# Altium footprint library PcbLib1.PcbLib: 3 footprints
Each footprint in its own frame and in the unit in brackets; x right, y up, seen from the top. Pads: shape width x height; smd on the part's side, far side on the other; paste and mask are expansions set on the pad; w line width, h text height; cw(c..) or ccw(c..) is an arc to the next point about the centre after c.
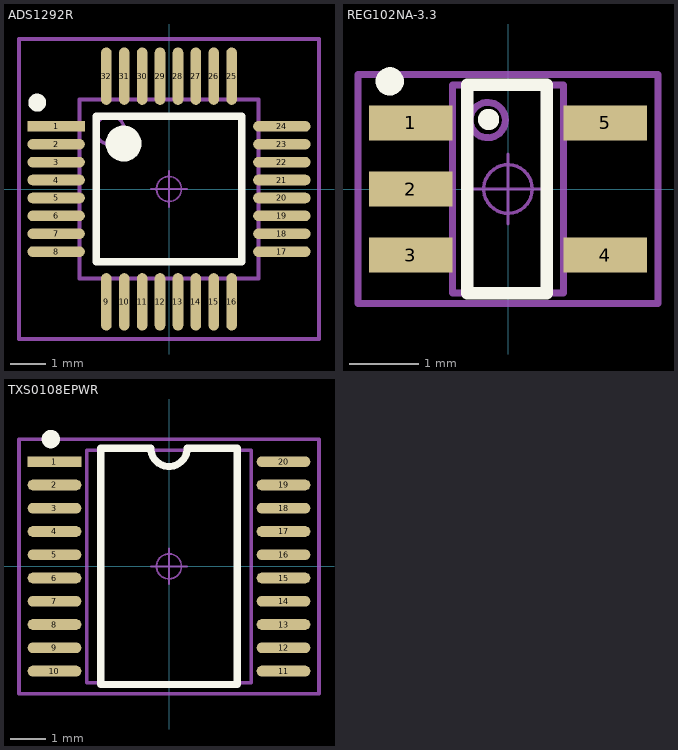
[diagram p0: the footprints below, top view; thin cyan lines are the x and y axes]

## ADS1292R [mm]
pads (32):
  rect 1.6x0.3 smd: 1(-3.152,1.75)
  oval 1.6x0.3 smd: 2(-3.152,1.25) 3(-3.152,0.75) 4(-3.152,0.25) 5(-3.152,-0.25) 6(-3.152,-0.75) 7(-3.152,-1.25) 8(-3.152,-1.75) 17(3.152,-1.75) 18(3.152,-1.25) 19(3.152,-0.75) 20(3.152,-0.25) 21(3.152,0.25) 22(3.152,0.75) 23(3.152,1.25) 24(3.152,1.75)
  oval 0.3x1.6 smd: 9(-1.75,-3.152) 10(-1.25,-3.152) 11(-0.75,-3.152) 12(-0.25,-3.152) 13(0.25,-3.152) 14(0.75,-3.152) 15(1.25,-3.152) 16(1.75,-3.152) 25(1.75,3.152) 26(1.25,3.152) 27(0.75,3.152) 28(0.25,3.152) 29(-0.25,3.152) 30(-0.75,3.152) 31(-1.25,3.152) 32(-1.75,3.152)
Top Overlay:
  circle w0.25: c-3.683,2.413 r0.125
  circle w0.6: c-1.27,1.27 r0.2
  lines w0.2: -2.032,-2.032 -2.032,2.032 2.032,2.032 2.032,-2.032 -2.032,-2.032
Mechanical 13:
  circle w0.1: c-1.651,1.651 r0.4
  lines w0.1: -2.5,-2.5 -2.5,2.5 2.5,2.5 2.5,-2.5 -2.5,-2.5
Mechanical 15:
  circle w0.05: c0,0 r0.35
  lines w0.05: -0.5,0 0.5,0 ; 0,-0.5 0,0.5
  lines w0.1: -4.191,-4.191 -4.191,4.191 4.191,4.191 4.191,-4.191 -4.191,-4.191
3D body "TQFP32 5x5.STEP": height 1.05, standoff 0, extent -3.502,-3.505 3.502,3.499

## REG102NA-3.3 [mm]
pads (5):
  rect 1.2x0.5 smd: 1(-1.4,0.95) 2(-1.4,0) 3(-1.4,-0.95) 4(1.4,-0.95) 5(1.4,0.95)
Top Overlay:
  circle w0.254: c-0.279,1.001 r0.025
  circle w0.254: c-1.702,1.549 r0.076
  lines w0.178: -0.584,-1.5 -0.584,1.5 0.559,1.5 0.559,-1.5 -0.584,-1.5
Mechanical 13:
  circle w0.1: c-0.292,0.992 r0.254
  lines w0.1: -0.8,-1.5 0.8,-1.5 0.8,1.5 -0.8,1.5 -0.8,-1.5
Mechanical 15:
  circle w0.05: c0,0 r0.35
  lines w0.05: -0.5,0 0.5,0 ; 0,-0.5 0,0.5
  lines w0.1: -2.159,-1.651 -2.159,1.651 2.159,1.651 2.159,-1.651 -2.159,-1.651
3D body "SOT23-5.STEP": height 1.15, standoff -0.03, extent -1.403,-1.5 1.403,1.5

## TXS0108EPWR [mm]
pads (20):
  rect 1.5x0.3 smd: 1(-3.2,2.925)
  oval 1.5x0.3 smd: 2(-3.2,2.275) 3(-3.2,1.625) 4(-3.2,0.975) 5(-3.2,0.325) 6(-3.2,-0.325) 7(-3.2,-0.975) 8(-3.2,-1.625) 9(-3.2,-2.275) 10(-3.2,-2.925) 11(3.2,-2.925) 12(3.2,-2.275) 13(3.2,-1.625) 14(3.2,-0.975) 15(3.2,-0.325) 16(3.2,0.325) 17(3.2,0.975) 18(3.2,1.625) 19(3.2,2.275) 20(3.2,2.925)
Top Overlay:
  circle w0.254: c-3.302,3.556 r0.13
  lines w0.2: -1.905,-3.3 1.905,-3.3 1.905,3.3 0.508,3.3 cw(c0,3.3) -0.508,3.302 -1.905,3.299 -1.905,-3.3
Mechanical 13:
  lines w0.1: -2.3,-3.25 2.3,-3.25 2.3,3.25 -2.3,3.25 -2.3,-3.25
Mechanical 15:
  circle w0.05: c0,0 r0.35
  lines w0.05: -0.5,0 0.5,0 ; 0,-0.5 0,0.5
  lines w0.1: -4.191,-3.556 -4.191,3.556 4.191,3.556 4.191,-3.556 -4.191,-3.556
3D body "TSSOP20.STEP": height 1.03, standoff -0.02, extent -3.202,-3.25 3.202,3.25